# EAGLE library part PVA2EEH1_1.7NV2 (library PVA2EEH1_1.7NV2)
Short Stroke Key Switches Source: Datasheet <http://www.ckswitches.com/media/1343/pva.pdf>
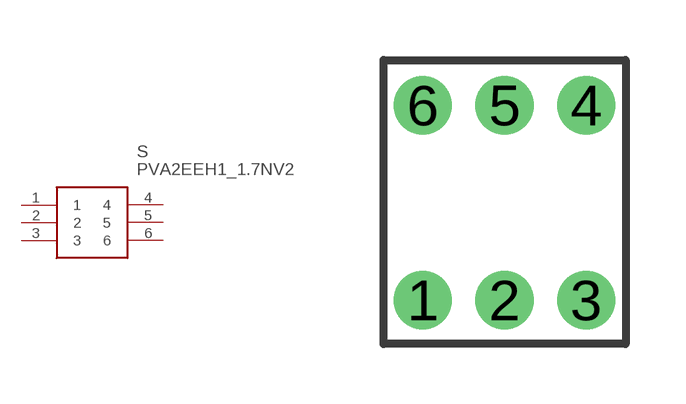
[diagram p0: symbol with the pads of PVA2; footprint PVA2]

Designator prefix S

## PVA2EEH1_1.7NV2 (ARROW_PART_NUMBER: PVA2EEH1 1.7NV2; DESCRIPTION: Short Stroke Key Switches; HEIGHT: mm; MANUFACTURER_NAME: C & K COMPONENTS; MANUFACTURER_PART_NUMBER: PVA2EEH1 1.7NV2)  [PVA2]
1  1
2  2
3  3
4  4
5  5
6  6

## Footprint PVA2 (pad centres in mm)
PVA2
drill 0.95 pad 1.45: 1 -2.398,-1.877; 2 -0.356,-1.877; 3 1.687,-1.877; 4 1.687,3; 5 -0.356,3; 6 -2.398,3